# Altium footprint library Passer.PcbLib: 19 footprints (part 2 of 2)
Each footprint in its own frame and in the unit in brackets; x right, y up, seen from the top. Pads: shape width x height; smd on the part's side, far side on the other; paste and mask are expansions set on the pad; w line width, h text height; cw(c..) or ccw(c..) is an arc to the next point about the centre after c.
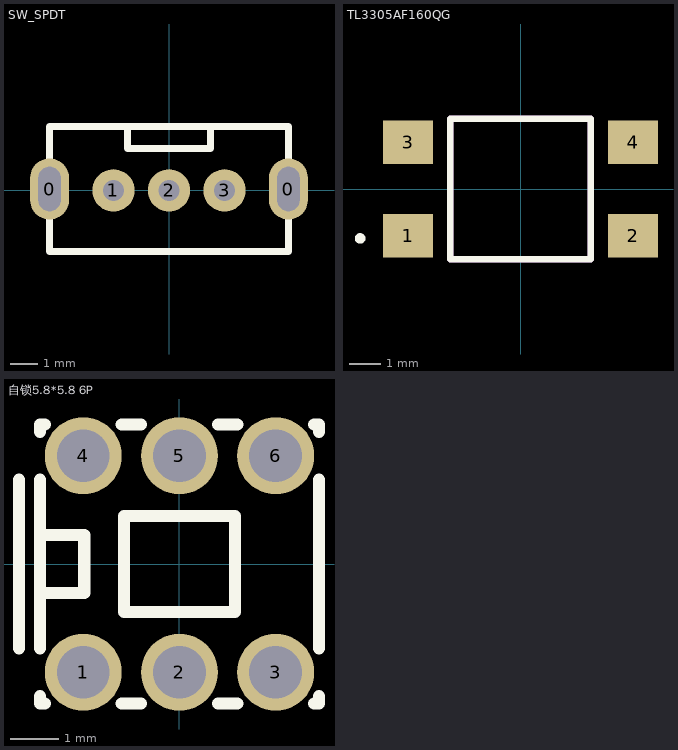
[diagram p1: the footprints below, top view; thin cyan lines are the x and y axes]

## SW_SPDT [mm]
pads (5):
  oval 1.4x2.2 hole 0.8 slot 1.6 at 90 deg: 0(-4.3,0.05) 0(4.3,0.05)
  round 1.524 hole 0.762: 1(-2,0) 2(0,0) 3(2,0)
Top Overlay:
  lines w0.254: -1.5,2.3 -1.5,1.5 1.5,1.5 1.5,2.3 ; -4.3,-2.2 -4.3,2.3 4.3,2.3 4.3,-2.2 -4.3,-2.2
3D body "Slide Switch-3Ppin-SPDT-0_3A.step": height 6.5, standoff -5, extent -4.25,-1.9 4.25,1.8

## TL3305AF160QG [mm]
pads (4):
  rect 1.6x1.4 smd: 1(-3.6,-1.5) 2(3.6,-1.5) 3(-3.6,1.5) 4(3.6,1.5)
Top Overlay:
  circle w0.2: c-5.138,-1.583 r0.069
  lines w0.2: -2.25,-2.25 -2.25,2.25 2.25,2.25 2.25,-2.25 -2.25,-2.25
Mechanical 13:
  lines w0.2: -2.25,-2.25 -2.25,2.25 2.25,2.25 2.25,-2.25 -2.25,-2.25

## 自锁5.8*5.8 6P [mm]
height 2
pads (6):
  round 1.6 hole 1.1: 1(-2,-2.25) 2(0,-2.25) 3(2,-2.25) 4(-2,2.25) 5(0,2.25) 6(2,2.25)
Top Overlay:
  lines w0.254: -3.335,-1.749 -3.335,1.749 ; -2.9,-2.751 -2.9,-2.9 -2.8,-2.9 ; -2.9,-1.749 -2.9,1.749 ; -2.9,-0.6 -1.979,-0.6 -1.979,0.6 -2.9,0.6 ; -2.9,2.751 -2.9,2.9 -2.8,2.9 ; -1.2,-2.9 -0.8,-2.9 ; -1.2,2.9 -0.8,2.9 ; 0.8,-2.9 1.2,-2.9 ; 0.8,2.9 1.2,2.9 ; 2.8,-2.9 2.9,-2.9 2.9,-2.751 ; 2.8,2.9 2.9,2.9 2.9,2.751 ; 2.9,-1.749 2.9,1.749 ; -1.153,-1 1.154,-1 1.154,1 -1.153,1 -1.153,-1